# Altium footprint library HgLib.PcbLib: 86 footprints (part 3 of 6)
Each footprint in its own frame and in the unit in brackets; x right, y up, seen from the top. Pads: shape width x height; smd on the part's side, far side on the other; paste and mask are expansions set on the pad; w line width, h text height; cw(c..) or ccw(c..) is an arc to the next point about the centre after c.
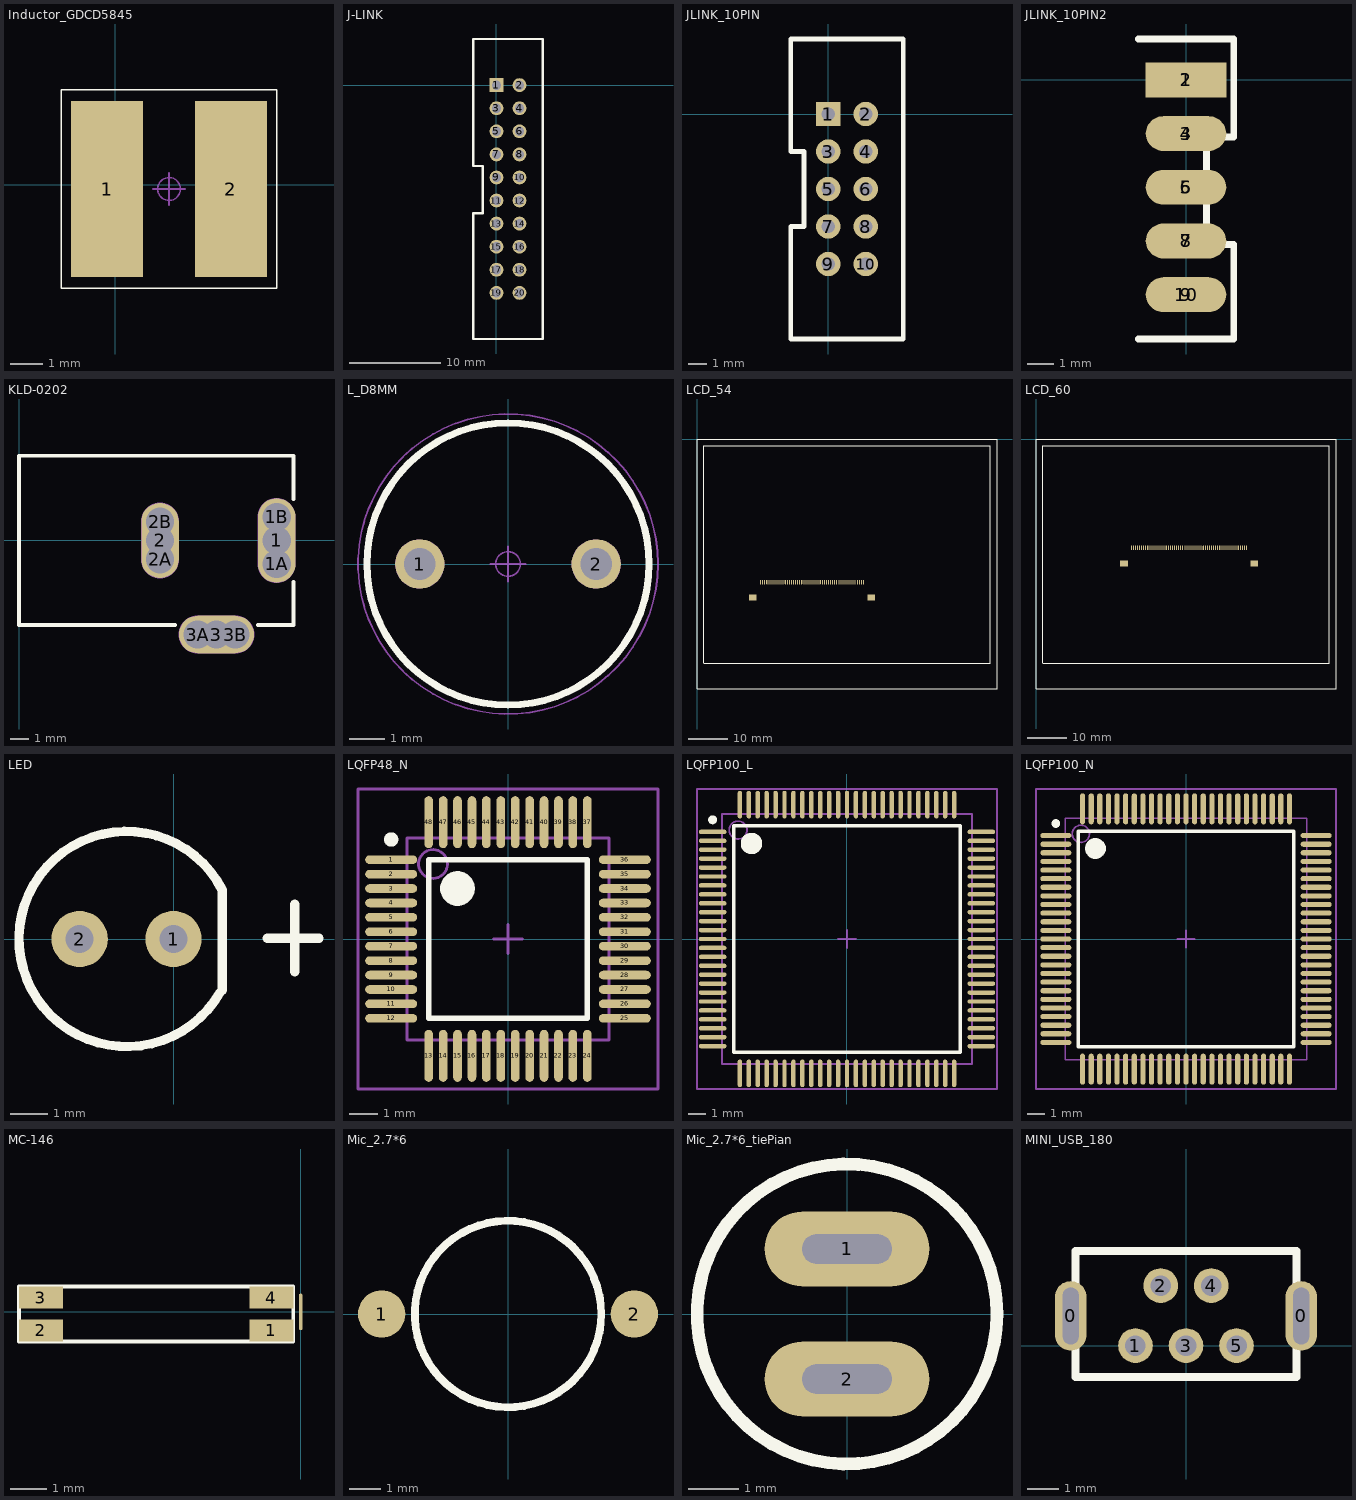
[diagram p2: the footprints below, top view; thin cyan lines are the x and y axes]

## Inductor_GDCD5845 [mm]
pads (2):
  rect 2.2x5.4 smd: 1(-0.249,-0.127) 2(3.551,-0.127)
Top Overlay:
  lines w0.05: -1.651,-3.175 4.953,-3.175 4.953,2.921 -1.651,2.921 -1.651,-3.175
Mechanical 16:
  circle w0.05: c1.651,-0.127 r0.35
  lines w0.05: 1.151,-0.127 2.151,-0.127 ; 1.651,-0.627 1.651,0.373

## J-LINK [mil]
pads (20):
  rect 60x60 / inner round 0 / far side round 0 hole 40 mask+4: 1(0,0)
  round 60 / inner round 0 / far side round 0 hole 40 mask+4: 2(100,0) 3(0,-100) 4(100,-100) 5(0,-200) 6(100,-200) 7(0,-300) 8(100,-300) 9(0,-400) 10(100,-400) 11(0,-500) 12(100,-500) 13(0,-600) 14(100,-600) 15(0,-700) 16(100,-700) 17(0,-800) 18(100,-800) 19(0,-900) 20(100,-900)
Top Overlay:
  lines w10: -100,-1100 200,-1100 200,-900 200,200 -100,200 -100,-350 -60,-350 -60,-555 -100,-555 -100,-900 -100,-1100

## JLINK_10PIN [mm]
pads (10):
  rect 1.3x1.3 / inner round 0 / far side round 0 hole 0.7: 1(0,0)
  round 1.3 / inner round 0 / far side round 0 hole 0.7: 2(2,0) 3(0,-2) 4(2,-2) 5(0,-4) 6(2,-4) 7(0,-6) 8(2,-6) 9(0,-8) 10(2,-8)
Top Overlay:
  lines w0.254: -2,-12 4,-12 4,4 -2,4 -2,-2 -1.3,-2 -1.3,-6 -2,-6 -2,-12

## JLINK_10PIN2 [mm]
pads (10):
  rect 3x1.3 smd: 1(0,0)
  oval 3x1.3 smd: 2(0,0) 3(0,-2) 4(0,-2) 5(0,-4) 6(0,-4) 7(0,-6) 8(0,-6) 9(0,-8) 10(0,-8)
Top Overlay:
  lines w0.254: -1.778,-9.652 1.778,-9.652 1.778,-6.128 0.762,-6.128 0.762,-2.128 1.778,-2.128 1.778,1.524 -1.778,1.524
Bottom Overlay:
  lines w0.254: -1.778,-9.652 1.778,-9.652 1.778,1.524 -1.778,1.524

## KLD-0202 [mm] "DC Power Jack, 2.5mm, KLD Series, PCB Mount"
height 12.75
pads (9):
  oval 2x4.5 hole 1.5: 1(13.7,0)
  round 1.5 hole 1.5: 1A(13.7,-1.25) 1B(13.7,1.25) 2A(7.5,-1) 2B(7.5,1) 3A(9.5,-5) 3B(11.5,-5)
  oval 2x4 hole 1.5: 2(7.5,0)
  oval 4x2 hole 1.5: 3(10.5,-5)
Top Overlay:
  lines w0.2: 8.3,-4.5 0,-4.5 0,4.5 14.6,4.5 14.6,2.2 ; 12.7,-4.5 14.6,-4.5 14.6,-2.2
Mechanical 1:
  lines w1: 7.5,-1 7.5,1 ; 9.5,-5 11.5,-5 ; 13.7,-1.25 13.7,1.25
Mechanical 2:
  lines w2.016: 7.5,-1 7.5,1 ; 9.5,-5 11.5,-5 ; 13.7,-1.25 13.7,1.25

## L_D8MM [mm]
pads (2):
  round 1.4 hole 0.9: 1(-2.5,0) 2(2.5,0)
Top Overlay:
  circle w0.2: c0,0 r4
Mechanical 15:
  circle w0.1: c2.5,0 r0.65
  circle w0.1: c-2.5,0 r0.65
  circle w0.1: c0,0 r4
Mechanical 16:
  circle w0.1: c2.5,0 r0.65
  circle w0.1: c-2.5,0 r0.65
  circle w0.001: c0,0 r4
  circle w0.05: c0,0 r0.35
  circle w0.05: c0,0 r4.25
  lines w0.05: -0.5,0 0.5,0 ; 0,-0.5 0,0.5

## LCD_54 [mm]
pads (56):
  rect 2x1.5 smd: 0(14.3,-40.7) 0(44.8,-40.7)
  oval 0.25x1.2 smd mask+0.025: 1(42.8,-36.7) 2(42.3,-36.7) 3(41.8,-36.7) 4(41.3,-36.7) 5(40.8,-36.7) 6(40.3,-36.7) 7(39.8,-36.7) 8(39.3,-36.7) 9(38.8,-36.7) 10(38.3,-36.7) 11(37.8,-36.7) 12(37.3,-36.7) 13(36.8,-36.7) 14(36.3,-36.7) 15(35.8,-36.7) 16(35.3,-36.7) 17(34.8,-36.7) 18(34.3,-36.7) 19(33.8,-36.7) 20(33.3,-36.7) 21(32.8,-36.7) 22(32.3,-36.7) 23(31.8,-36.7) 24(31.3,-36.7) 25(30.8,-36.7) 26(30.3,-36.7) 27(29.8,-36.7) 28(29.3,-36.7) 29(28.8,-36.7) 30(28.3,-36.7) 31(27.8,-36.7) 32(27.3,-36.7) 33(26.8,-36.7) 34(26.3,-36.7) 35(25.8,-36.7) 36(25.3,-36.7) 37(24.8,-36.7) 38(24.3,-36.7) 39(23.8,-36.7) 40(23.3,-36.7) 41(22.8,-36.7) 42(22.3,-36.7) 43(21.8,-36.7) 44(21.3,-36.7) 45(20.8,-36.7) 46(20.3,-36.7) 47(19.8,-36.7) 48(19.3,-36.7) 49(18.8,-36.7) 50(18.3,-36.7) 51(17.8,-36.7) 52(17.3,-36.7) 53(16.8,-36.7) 54(16.3,-36.7)
Top Overlay:
  lines w0.254: 1.7,-57.5 1.7,-1.7 75.4,-1.7 75.4,-57.5 1.9,-57.5 ; 0,-64.1 0,0 77.1,0 77.1,-64.1 0,-64.1
Bottom Overlay:
  lines w0.254: 15.8,-64.1 15.8,-39.1 43.3,-39.1 43.3,-54.1 43.3,-64.1 ; 14.3,-41.9 44.8,-41.9 44.8,-37 14.3,-37 14.3,-41.9

## LCD_60 [mm]
pads (62):
  rect 2x1.5 smd: 0(22.6,-31.9) 0(56.1,-31.9)
  oval 0.25x1.2 smd mask+0.025: 1(54.1,-27.9) 2(53.6,-27.9) 3(53.1,-27.9) 4(52.6,-27.9) 5(52.1,-27.9) 6(51.6,-27.9) 7(51.1,-27.9) 8(50.6,-27.9) 9(50.1,-27.9) 10(49.6,-27.9) 11(49.1,-27.9) 12(48.6,-27.9) 13(48.1,-27.9) 14(47.6,-27.9) 15(47.1,-27.9) 16(46.6,-27.9) 17(46.1,-27.9) 18(45.6,-27.9) 19(45.1,-27.9) 20(44.6,-27.9) 21(44.1,-27.9) 22(43.6,-27.9) 23(43.1,-27.9) 24(42.6,-27.9) 25(42.1,-27.9) 26(41.6,-27.9) 27(41.1,-27.9) 28(40.6,-27.9) 29(40.1,-27.9) 30(39.6,-27.9) 31(39.1,-27.9) 32(38.6,-27.9) 33(38.1,-27.9) 34(37.6,-27.9) 35(37.1,-27.9) 36(36.6,-27.9) 37(36.1,-27.9) 38(35.6,-27.9) 39(35.1,-27.9) 40(34.6,-27.9) 41(34.1,-27.9) 42(33.6,-27.9) 43(33.1,-27.9) 44(32.6,-27.9) 45(32.1,-27.9) 46(31.6,-27.9) 47(31.1,-27.9) 48(30.6,-27.9) 49(30.1,-27.9) 50(29.6,-27.9) 51(29.1,-27.9) 52(28.6,-27.9) 53(28.1,-27.9) 54(27.6,-27.9) 55(27.1,-27.9) 56(26.6,-27.9) 57(26.1,-27.9) 58(25.6,-27.9) 59(25.1,-27.9) 60(24.6,-27.9)
Top Overlay:
  lines w0.254: 1.7,-57.5 1.7,-1.7 75.4,-1.7 75.4,-57.5 1.9,-57.5 ; 0,-64.1 0,0 77.1,0 77.1,-64.1 0,-64.1
Bottom Overlay:
  lines w0.254: 24.1,-63.95 24.1,-30.3 54.6,-30.3 54.6,-63.95 ; 22.6,-33.1 22.6,-28.2 56.1,-28.2 56.1,-33.1 22.6,-33.1

## LED [mil]
pads (2):
  round 60 / inner round 0 / far side round 0 hole 30 mask+4: 1(0,0) 2(-100,0)
Top Overlay:
  lines w10: 49.47,-56.98 cw(c-50,0) 51.93,52.45 51.93,-54.52 ; 100,1 155,1 ; 129,-35 129,37

## LQFP48_N [mm]
pads (48):
  oval 1.8x0.3 smd: 1(-4.05,2.75) 2(-4.05,2.25) 3(-4.05,1.75) 4(-4.05,1.25) 5(-4.05,0.75) 6(-4.05,0.25) 7(-4.05,-0.25) 8(-4.05,-0.75) 9(-4.05,-1.25) 10(-4.05,-1.75) 11(-4.05,-2.25) 12(-4.05,-2.75) 25(4.05,-2.75) 26(4.05,-2.25) 27(4.05,-1.75) 28(4.05,-1.25) 29(4.05,-0.75) 30(4.05,-0.25) 31(4.05,0.25) 32(4.05,0.75) 33(4.05,1.25) 34(4.05,1.75) 35(4.05,2.25) 36(4.05,2.75)
  oval 0.3x1.8 smd: 13(-2.75,-4.05) 14(-2.25,-4.05) 15(-1.75,-4.05) 16(-1.25,-4.05) 17(-0.75,-4.05) 18(-0.25,-4.05) 19(0.25,-4.05) 20(0.75,-4.05) 21(1.25,-4.05) 22(1.75,-4.05) 23(2.25,-4.05) 24(2.75,-4.05) 37(2.75,4.05) 38(2.25,4.05) 39(1.75,4.05) 40(1.25,4.05) 41(0.75,4.05) 42(0.25,4.05) 43(-0.25,4.05) 44(-0.75,4.05) 45(-1.25,4.05) 46(-1.75,4.05) 47(-2.25,4.05) 48(-2.75,4.05)
Top Overlay:
  circle w0.25: c-4.05,3.45 r0.125
  circle w0.6: c-1.75,1.75 r0.3
  lines w0.2: -2.75,-2.75 -2.75,2.75 2.75,2.75 2.75,-2.75 -2.75,-2.75
Mechanical 13:
  circle w0.1: c-2.6,2.6 r0.5
  lines w0.1: -3.5,-3.5 -3.5,3.5 3.5,3.5 3.5,-3.5 -3.5,-3.5
Mechanical 15:
  lines w0.1: -0.5,0 0.5,0 ; 0,-0.5 0,0.5 ; -5.2,-5.2 -5.2,5.2 5.2,5.2 5.2,-5.2 -5.2,-5.2

## LQFP100_L [mm]
pads (100):
  oval 1.55x0.25 smd: 1(-7.525,6) 2(-7.525,5.5) 3(-7.525,5) 4(-7.525,4.5) 5(-7.525,4) 6(-7.525,3.5) 7(-7.525,3) 8(-7.525,2.5) 9(-7.525,2) 10(-7.525,1.5) 11(-7.525,1) 12(-7.525,0.5) 13(-7.525,0) 14(-7.525,-0.5) 15(-7.525,-1) 16(-7.525,-1.5) 17(-7.525,-2) 18(-7.525,-2.5) 19(-7.525,-3) 20(-7.525,-3.5) 21(-7.525,-4) 22(-7.525,-4.5) 23(-7.525,-5) 24(-7.525,-5.5) 25(-7.525,-6) 51(7.525,-6) 52(7.525,-5.5) 53(7.525,-5) 54(7.525,-4.5) 55(7.525,-4) 56(7.525,-3.5) 57(7.525,-3) 58(7.525,-2.5) 59(7.525,-2) 60(7.525,-1.5) 61(7.525,-1) 62(7.525,-0.5) 63(7.525,0) 64(7.525,0.5) 65(7.525,1) 66(7.525,1.5) 67(7.525,2) 68(7.525,2.5) 69(7.525,3) 70(7.525,3.5) 71(7.525,4) 72(7.525,4.5) 73(7.525,5) 74(7.525,5.5) 75(7.525,6)
  oval 0.25x1.55 smd: 26(-6,-7.525) 27(-5.5,-7.525) 28(-5,-7.525) 29(-4.5,-7.525) 30(-4,-7.525) 31(-3.5,-7.525) 32(-3,-7.525) 33(-2.5,-7.525) 34(-2,-7.525) 35(-1.5,-7.525) 36(-1,-7.525) 37(-0.5,-7.525) 38(0,-7.525) 39(0.5,-7.525) 40(1,-7.525) 41(1.5,-7.525) 42(2,-7.525) 43(2.5,-7.525) 44(3,-7.525) 45(3.5,-7.525) 46(4,-7.525) 47(4.5,-7.525) 48(5,-7.525) 49(5.5,-7.525) 50(6,-7.525) 76(6,7.525) 77(5.5,7.525) 78(5,7.525) 79(4.5,7.525) 80(4,7.525) 81(3.5,7.525) 82(3,7.525) 83(2.5,7.525) 84(2,7.525) 85(1.5,7.525) 86(1,7.525) 87(0.5,7.525) 88(0,7.525) 89(-0.5,7.525) 90(-1,7.525) 91(-1.5,7.525) 92(-2,7.525) 93(-2.5,7.525) 94(-3,7.525) 95(-3.5,7.525) 96(-4,7.525) 97(-4.5,7.525) 98(-5,7.525) 99(-5.5,7.525) 100(-6,7.525)
Top Overlay:
  circle w0.25: c-7.525,6.675 r0.125
  circle w0.6: c-5.35,5.35 r0.3
  lines w0.2: -6.35,-6.35 -6.35,6.35 6.35,6.35 6.35,-6.35 -6.35,-6.35
Mechanical 13:
  circle w0.1: c-6.1,6.1 r0.5
  lines w0.1: -7,-7 -7,7 7,7 7,-7 -7,-7
Mechanical 15:
  lines w0.1: -0.5,0 0.5,0 ; 0,-0.5 0,0.5 ; -8.4,-8.4 -8.4,8.4 8.4,8.4 8.4,-8.4 -8.4,-8.4

## LQFP100_N [mm]
pads (100):
  oval 1.8x0.3 smd: 1(-7.55,6) 2(-7.55,5.5) 3(-7.55,5) 4(-7.55,4.5) 5(-7.55,4) 6(-7.55,3.5) 7(-7.55,3) 8(-7.55,2.5) 9(-7.55,2) 10(-7.55,1.5) 11(-7.55,1) 12(-7.55,0.5) 13(-7.55,0) 14(-7.55,-0.5) 15(-7.55,-1) 16(-7.55,-1.5) 17(-7.55,-2) 18(-7.55,-2.5) 19(-7.55,-3) 20(-7.55,-3.5) 21(-7.55,-4) 22(-7.55,-4.5) 23(-7.55,-5) 24(-7.55,-5.5) 25(-7.55,-6) 51(7.55,-6) 52(7.55,-5.5) 53(7.55,-5) 54(7.55,-4.5) 55(7.55,-4) 56(7.55,-3.5) 57(7.55,-3) 58(7.55,-2.5) 59(7.55,-2) 60(7.55,-1.5) 61(7.55,-1) 62(7.55,-0.5) 63(7.55,0) 64(7.55,0.5) 65(7.55,1) 66(7.55,1.5) 67(7.55,2) 68(7.55,2.5) 69(7.55,3) 70(7.55,3.5) 71(7.55,4) 72(7.55,4.5) 73(7.55,5) 74(7.55,5.5) 75(7.55,6)
  oval 0.3x1.8 smd: 26(-6,-7.55) 27(-5.5,-7.55) 28(-5,-7.55) 29(-4.5,-7.55) 30(-4,-7.55) 31(-3.5,-7.55) 32(-3,-7.55) 33(-2.5,-7.55) 34(-2,-7.55) 35(-1.5,-7.55) 36(-1,-7.55) 37(-0.5,-7.55) 38(0,-7.55) 39(0.5,-7.55) 40(1,-7.55) 41(1.5,-7.55) 42(2,-7.55) 43(2.5,-7.55) 44(3,-7.55) 45(3.5,-7.55) 46(4,-7.55) 47(4.5,-7.55) 48(5,-7.55) 49(5.5,-7.55) 50(6,-7.55) 76(6,7.55) 77(5.5,7.55) 78(5,7.55) 79(4.5,7.55) 80(4,7.55) 81(3.5,7.55) 82(3,7.55) 83(2.5,7.55) 84(2,7.55) 85(1.5,7.55) 86(1,7.55) 87(0.5,7.55) 88(0,7.55) 89(-0.5,7.55) 90(-1,7.55) 91(-1.5,7.55) 92(-2,7.55) 93(-2.5,7.55) 94(-3,7.55) 95(-3.5,7.55) 96(-4,7.55) 97(-4.5,7.55) 98(-5,7.55) 99(-5.5,7.55) 100(-6,7.55)
Top Overlay:
  circle w0.25: c-7.55,6.7 r0.125
  circle w0.6: c-5.25,5.25 r0.3
  lines w0.2: -6.25,-6.25 -6.25,6.25 6.25,6.25 6.25,-6.25 -6.25,-6.25
Mechanical 13:
  circle w0.1: c-6.1,6.1 r0.5
  lines w0.1: -7,-7 -7,7 7,7 7,-7 -7,-7
Mechanical 15:
  lines w0.1: -0.5,0 0.5,0 ; 0,-0.5 0,0.5 ; -8.7,-8.7 -8.7,8.7 8.7,8.7 8.7,-8.7 -8.7,-8.7

## MC-146 [mm]
pads (5):
  rect 1.2x0.6 smd mask+0.102: 1(-0.8,-0.508) 2(-7.1,-0.508) 3(-7.1,0.392) 4(-0.8,0.392)
  oval 0.1x1 smd mask+0.102: 1(0,0)
Top Overlay:
  lines w0.1: -7.7,-0.808 -0.2,-0.808 -0.2,0.692 -7.7,0.692 -7.7,-0.808

## Mic_2.7*6 [mil]
height 106.3
pads (2):
  round 60 smd: 1(-160,0) 2(160,0)
Top Overlay:
  circle w10: c0,0 r118.11

## Mic_2.7*6_tiePian [mm]
pads (2):
  oval 3.3x1.5 hole 0.6 slot 1.8 at 0 deg: 1(0,1.3) 2(0,-1.3)
Top Overlay:
  circle w0.254: c0,0 r3

## MINI_USB_180 [mm]
pads (7):
  oval 1x2.2 hole 0.5 slot 1.8 at 90 deg: 0(-3.65,0.94) 0(3.65,0.94)
  round 1.1 hole 0.65: 1(-1.6,0) 2(-0.8,1.9) 3(0,0) 4(0.8,1.9) 5(1.6,0)
Top Overlay:
  lines w0.254: -3.5,-1 3.5,-1 3.5,3 -3.5,3 -3.5,-1